# EAGLE library part ST25DV64K (library ICs)
Dynamic NFC/RFID tag IC with 4-Kbit, 16-Kbit or 64-Kbit EEPROM, and fast transfer mode capability
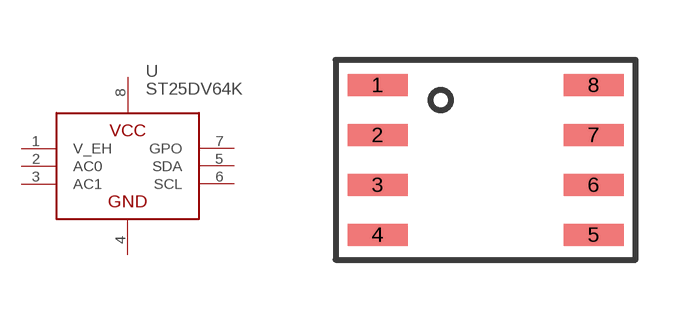
[diagram p186: symbol with the pads of SO8; footprint SO8]

Designator prefix U

## ST25DV64K-IER6S3 (DIGIKEY: 497-17127-1-ND; HEIGHT: 2; PRICE_PER: 1.22; VALUE: ST25CV64K)  [SO8]
1  V_EH
2  AC0
3  AC1
4  GND
5  SDA
6  SCL
7  GPO
8  VCC

## Footprint SO8 (pad centres in mm)
smd 1.5 x 0.55: 1 -2.7,1.875; 2 -2.7,0.625; 3 -2.7,-0.625; 4 -2.7,-1.875; 5 2.7,-1.875; 6 2.7,-0.625; 7 2.7,0.625; 8 2.7,1.875